# Altium footprint library SMD Opto Components.PcbLib: 31 footprints (part 2 of 2)
Each footprint in its own frame and in the unit in brackets; x right, y up, seen from the top. Pads: shape width x height; smd on the part's side, far side on the other; paste and mask are expansions set on the pad; w line width, h text height; cw(c..) or ccw(c..) is an arc to the next point about the centre after c.
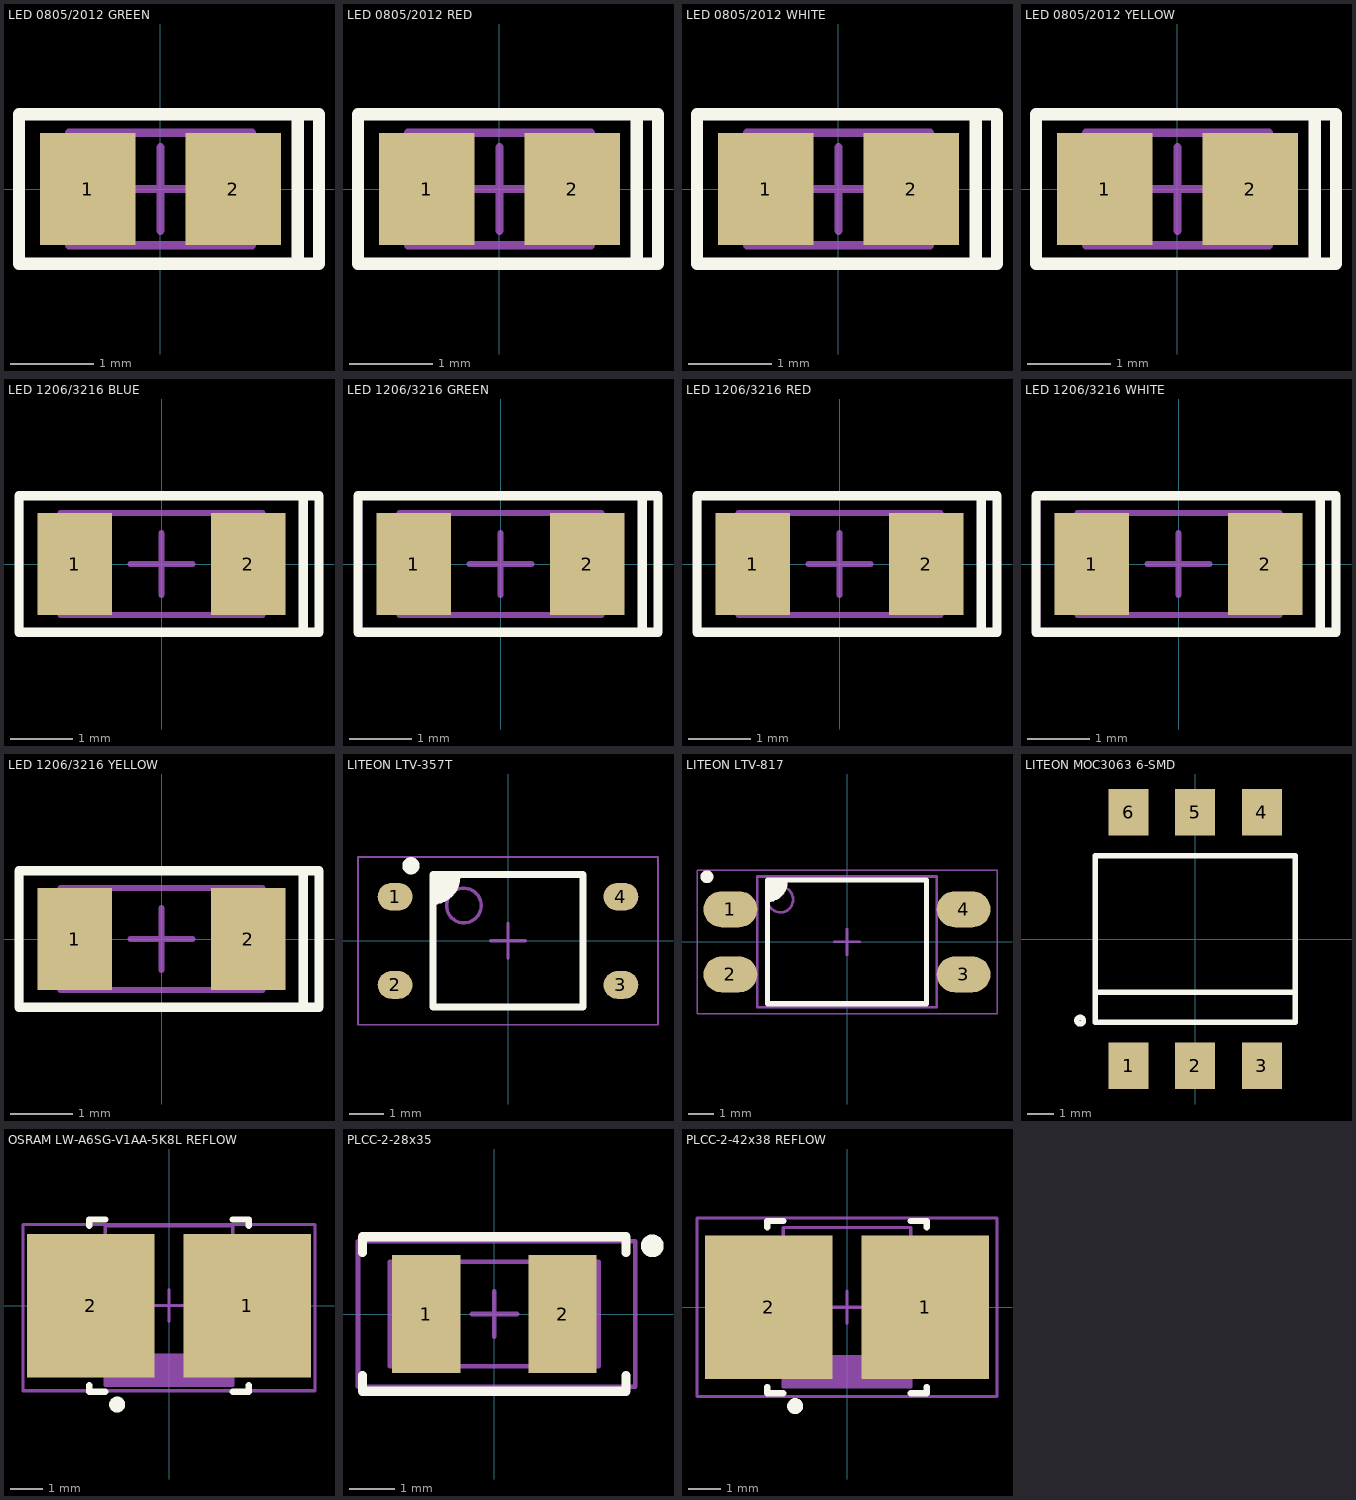
[diagram p1: the footprints below, top view; thin cyan lines are the x and y axes]

## LED 0805/2012 GREEN [mm] "Chip LED, IPC Medium Density"
height 0.7
pads (2):
  rect 1.15x1.35 smd: 1(-0.875,0) 2(0.875,0)
Top Overlay:
  lines w0.15: 1.651,-0.9 1.651,0.9 ; -1.7,-0.9 -1.7,0.9 1.905,0.9 1.905,-0.9 -1.7,-0.9
Mechanical 13:
  lines w0.1: -1.1,-0.675 -1.1,0.675 1.1,0.675 1.1,-0.675 -1.1,-0.675
Mechanical 15:
  lines w0.05: -1.7,-0.95 -1.7,0.95 1.7,0.95 1.7,-0.95 -1.7,-0.95
  lines w0.1: -0.5,0 0.5,0 ; 0,-0.5 0,0.5
3D body "LED 0805 B&L GREEN.STEP": height 0.85, standoff -0.05, extent -1,-0.625 1,0.625

## LED 0805/2012 RED [mm] "Chip LED, IPC Medium Density"
height 0.7
pads (2):
  rect 1.15x1.35 smd: 1(-0.875,0) 2(0.875,0)
Top Overlay:
  lines w0.15: 1.651,-0.9 1.651,0.9 ; -1.7,-0.9 1.905,-0.9 1.905,0.9 -1.7,0.9 -1.7,-0.9
Mechanical 13:
  lines w0.1: -1.1,-0.675 1.1,-0.675 1.1,0.675 -1.1,0.675 -1.1,-0.675
Mechanical 15:
  lines w0.05: -1.7,-0.95 1.7,-0.95 1.7,0.95 -1.7,0.95 -1.7,-0.95
  lines w0.1: -0.5,0 0.5,0 ; 0,-0.5 0,0.5
3D body "LED 0805 B&L RED.STEP": height 0.85, standoff -0.05, extent -1,-0.625 1,0.625

## LED 0805/2012 WHITE [mm] "Chip LED, IPC Medium Density"
height 0.7
pads (2):
  rect 1.15x1.35 smd: 1(-0.875,0) 2(0.875,0)
Top Overlay:
  lines w0.15: 1.651,-0.9 1.651,0.9 ; -1.7,-0.9 -1.7,0.9 1.905,0.9 1.905,-0.9 -1.7,-0.9
Mechanical 13:
  lines w0.1: -1.1,-0.675 -1.1,0.675 1.1,0.675 1.1,-0.675 -1.1,-0.675
Mechanical 15:
  lines w0.05: -1.7,-0.95 -1.7,0.95 1.7,0.95 1.7,-0.95 -1.7,-0.95
  lines w0.1: -0.5,0 0.5,0 ; 0,-0.5 0,0.5
3D body "LED 0805 B&L WHITE.STEP": height 0.85, standoff -0.05, extent -1,-0.625 1,0.625

## LED 0805/2012 YELLOW [mm] "Chip LED, IPC Medium Density"
height 0.7
pads (2):
  rect 1.15x1.35 smd: 1(-0.875,0) 2(0.875,0)
Top Overlay:
  lines w0.15: 1.651,-0.9 1.651,0.9 ; -1.7,-0.9 -1.7,0.9 1.905,0.9 1.905,-0.9 -1.7,-0.9
Mechanical 13:
  lines w0.1: -1.1,-0.675 -1.1,0.675 1.1,0.675 1.1,-0.675 -1.1,-0.675
Mechanical 15:
  lines w0.05: -1.7,-0.95 -1.7,0.95 1.7,0.95 1.7,-0.95 -1.7,-0.95
  lines w0.1: -0.5,0 0.5,0 ; 0,-0.5 0,0.5
3D body "LED 0805 B&L YELLOW.STEP": height 0.85, standoff -0.05, extent -1,-0.625 1,0.625

## LED 1206/3216 BLUE [mm] "Chip LED, IPC Medium Density"
height 0.7
pads (2):
  rect 1.2x1.65 smd: 1(-1.4,0) 2(1.4,0)
Top Overlay:
  lines w0.15: 2.286,-1.1 2.286,1.1 ; -2.3,-1.1 -2.3,1.1 2.54,1.1 2.54,-1.1 -2.3,-1.1
Mechanical 13:
  lines w0.1: -1.625,-0.825 -1.625,0.825 1.625,0.825 1.625,-0.825 -1.625,-0.825
Mechanical 15:
  lines w0.05: -2.25,-1.1 -2.25,1.1 2.25,1.1 2.25,-1.1 -2.25,-1.1
  lines w0.1: -0.5,0 0.5,0 ; 0,-0.5 0,0.5
3D body "LED 1206 B&L BLUE.STEP": height 0.85, standoff -0.05, extent -1.6,-0.8 1.6,0.8

## LED 1206/3216 GREEN [mm] "Chip LED, IPC Medium Density"
height 0.7
pads (2):
  rect 1.2x1.65 smd: 1(-1.4,0) 2(1.4,0)
Top Overlay:
  lines w0.15: 2.286,-1.1 2.286,1.1 ; -2.3,-1.1 2.54,-1.1 2.54,1.1 -2.3,1.1 -2.3,-1.1
Mechanical 13:
  lines w0.1: -1.625,-0.825 1.625,-0.825 1.625,0.825 -1.625,0.825 -1.625,-0.825
Mechanical 15:
  lines w0.05: -2.25,-1.1 2.25,-1.1 2.25,1.1 -2.25,1.1 -2.25,-1.1
  lines w0.1: -0.5,0 0.5,0 ; 0,-0.5 0,0.5
3D body "LED 1206 B&L GREEN.STEP": height 0.85, standoff -0.05, extent -1.6,-0.8 1.6,0.8

## LED 1206/3216 RED [mm] "Chip LED, IPC Medium Density"
height 0.7
pads (2):
  rect 1.2x1.65 smd: 1(-1.4,0) 2(1.4,0)
Top Overlay:
  lines w0.15: 2.286,-1.1 2.286,1.1 ; -2.3,-1.1 -2.3,1.1 2.54,1.1 2.54,-1.1 -2.3,-1.1
Mechanical 13:
  lines w0.1: -1.625,-0.825 -1.625,0.825 1.625,0.825 1.625,-0.825 -1.625,-0.825
Mechanical 15:
  lines w0.05: -2.25,-1.1 -2.25,1.1 2.25,1.1 2.25,-1.1 -2.25,-1.1
  lines w0.1: -0.5,0 0.5,0 ; 0,-0.5 0,0.5
3D body "LED 1206 B&L RED.STEP": height 0.85, standoff -0.05, extent -1.6,-0.8 1.6,0.8

## LED 1206/3216 WHITE [mm] "Chip LED, IPC Medium Density"
height 0.7
pads (2):
  rect 1.2x1.65 smd: 1(-1.4,0) 2(1.4,0)
Top Overlay:
  lines w0.15: 2.286,-1.1 2.286,1.1 ; -2.3,-1.1 2.54,-1.1 2.54,1.1 -2.3,1.1 -2.3,-1.1
Mechanical 13:
  lines w0.1: -1.625,-0.825 1.625,-0.825 1.625,0.825 -1.625,0.825 -1.625,-0.825
Mechanical 15:
  lines w0.05: -2.25,-1.1 2.25,-1.1 2.25,1.1 -2.25,1.1 -2.25,-1.1
  lines w0.1: -0.5,0 0.5,0 ; 0,-0.5 0,0.5
3D body "LED 1206 B&L WHITE.STEP": height 0.85, standoff -0.05, extent -1.6,-0.8 1.6,0.8

## LED 1206/3216 YELLOW [mm] "Chip LED, IPC Medium Density"
height 0.7
pads (2):
  rect 1.2x1.65 smd: 1(-1.4,0) 2(1.4,0)
Top Overlay:
  lines w0.15: 2.286,-1.1 2.286,1.1 ; -2.3,-1.1 2.54,-1.1 2.54,1.1 -2.3,1.1 -2.3,-1.1
Mechanical 13:
  lines w0.1: -1.625,-0.825 1.625,-0.825 1.625,0.825 -1.625,0.825 -1.625,-0.825
Mechanical 15:
  lines w0.05: -2.25,-1.1 2.25,-1.1 2.25,1.1 -2.25,1.1 -2.25,-1.1
  lines w0.1: -0.5,0 0.5,0 ; 0,-0.5 0,0.5
3D body "LED 1206 B&L YELLOW.STEP": height 0.85, standoff -0.05, extent -1.6,-0.8 1.6,0.8

## LITEON LTV-357T [mm] "SOP, 4-Leads, Body 3.85x4.4mm, Pitch 2.54mm, IPC Medium Density"
height 2.1
pads (4):
  oval 1x0.8 smd: 1(-3.25,1.27) 2(-3.25,-1.27) 3(3.25,-1.27) 4(3.25,1.27)
Top Overlay:
  circle w0.25: c-2.794,2.159 r0.125
  region: -2.159,1.905 -1.472,1.905 -1.472,1.524 -1.853,1.143 -2.159,1.143
  lines w0.2: -2.159,1.143 ccw(c-2.159,1.83) -1.472,1.83 ; -2.159,-1.905 -2.159,1.905 2.159,1.905 2.159,-1.905 -2.159,-1.905
Mechanical 13:
  circle w0.1: c-1.27,1.016 r0.5
  lines w0.1: -2.159,-1.905 -2.159,1.905 2.159,1.905 2.159,-1.905 -2.159,-1.905
Mechanical 15:
  lines w0.05: -4.318,-2.413 -4.318,2.413 4.318,2.413 4.318,-2.413 -4.318,-2.413
  lines w0.1: -0.5,0 0.5,0 ; 0,-0.5 0,0.5
3D body "LTV-357T.STEP": height 2.1, standoff 0, extent -3.514,-1.925 3.514,1.925

## LITEON LTV-817 [mm] "SOP, 4-Leads, Body 4.60x6.50mm, Pitch 2.54mm, IPC Medium Density"
height 4.35
pads (4):
  oval 2.1x1.4 smd: 1(-4.55,1.27) 2(-4.55,-1.27) 3(4.55,-1.27) 4(4.55,1.27)
Top Overlay:
  circle w0.25: c-5.461,2.54 r0.125
  region: -3.1,2.413 -2.413,2.413 -2.413,2.032 -2.794,1.651 -3.1,1.651
  lines w0.2: -3.1,1.651 ccw(c-3.1,2.338) -2.413,2.338 ; -3.1,-2.413 -3.1,2.413 3.1,2.413 3.1,-2.413 -3.1,-2.413
Mechanical 13:
  circle w0.1: c-2.6,1.65 r0.5
  lines w0.1: -3.5,-2.55 -3.5,2.55 3.5,2.55 3.5,-2.55 -3.5,-2.55
Mechanical 15:
  lines w0.05: -5.85,-2.8 -5.85,2.8 5.85,2.8 5.85,-2.8 -5.85,-2.8
  lines w0.1: -0.5,0 0.5,0 ; 0,-0.5 0,0.5
3D body "LTV-817S.STEP": height 3.85, standoff 0, extent -5.098,-2.3 5.098,2.3

## LITEON MOC3063 6-SMD [mil]
pads (6):
  rect 60x70 smd: 1(-100,-190) 2(0,-190) 3(100,-190) 4(100,190) 5(0,190) 6(-100,190)
Top Overlay:
  circle w8: c-172.5,-122.5 r5
  lines w8: -150,-80 150,-80 ; -150,-80 -150,125 150,125 150,-80 ; -150,-80 -150,-125 150,-125 150,-80
3D body "6-SMD.step": height 138, standoff -4, extent -142,-200 145,200

## OSRAM LW-A6SG-V1AA-5K8L REFLOW [mm] "PLCC-2, Right Angle Light Emmiting Diode, 2-Leads, Body 4.2x3.8mm, IPC Low Density"
height 4.2
pads (2):
  rect 4x4.5 smd: 1(2.45,0) 2(-2.45,0)
Top Overlay:
  circle w0.25: c-1.625,-3.1 r0.125
  lines w0.2: -2.5,-2.5 -2.5,-2.7 -2,-2.7 ; -2.5,2.5 -2.5,2.7 -2,2.7 ; 2,-2.7 2.5,-2.7 2.5,-2.5 ; 2,2.7 2.5,2.7 2.5,2.5
Mechanical 13:
  rectangle: -2,-2.5 2,-1.5
  lines w0.1: -2,-2.5 -2,2.5 2,2.5 2,-2.5 -2,-2.5
Mechanical 15:
  lines w0.1: -0.5,0 0.5,0 ; 0,-0.5 0,0.5 ; -4.572,-2.667 4.572,-2.667 4.572,2.54 -4.572,2.54 -4.572,-2.667
3D body "PLCC-2-42X38mm SIDELED TEMPLATE 2.STEP": height 4.2, standoff 0, extent -2.1,-1.942 2.1,1.905

## PLCC-2-28x35 [mm] "PLCC-2, Light Emmiting Diode, 2-Leads, Body 2.8x3.5mm, IPC Low Density"
height 2
pads (2):
  rect 1.5x2.6 smd: 1(-1.5,0) 2(1.5,0)
Top Overlay:
  circle w0.25: c3.475,1.5 r0.125
  lines w0.2: -2.9,-1.35 -2.9,-1.7 2.9,-1.7 2.9,-1.35 ; -2.9,1.35 -2.9,1.7 2.9,1.7 2.9,1.35
Mechanical 13:
  rectangle: 1.681,-1.145 2.3,1.145
  lines w0.1: -2.3,-1.145 -2.3,1.145 2.3,1.145 2.3,-1.145 -2.3,-1.145
Mechanical 15:
  lines w0.1: -0.5,0 0.5,0 ; 0,-0.5 0,0.5 ; -3,-1.6 -3,1.6 3.1,1.6 3.1,-1.6 -3,-1.6

## PLCC-2-42x38 REFLOW [mm] "PLCC-2, Right Angle Light Emmiting Diode, 2-Leads, Body 4.2x3.8mm, IPC Low Density"
height 4.2
pads (2):
  rect 4x4.5 smd: 1(2.45,0) 2(-2.45,0)
Top Overlay:
  circle w0.25: c-1.625,-3.1 r0.125
  lines w0.2: -2.5,-2.5 -2.5,-2.7 -2,-2.7 ; -2.5,2.5 -2.5,2.7 -2,2.7 ; 2,-2.7 2.5,-2.7 2.5,-2.5 ; 2,2.7 2.5,2.7 2.5,2.5
Mechanical 13:
  rectangle: -2,-2.5 2,-1.5
  lines w0.1: -2,-2.5 2,-2.5 2,2.5 -2,2.5 -2,-2.5
Mechanical 15:
  lines w0.1: -0.5,0 0.5,0 ; 0,-0.5 0,0.5 ; -4.699,-2.8 -4.699,2.8 4.699,2.8 4.699,-2.8 -4.699,-2.8